# Altium schematic symbol library uln.SchLib: 4 symbols
Pins are listed as number, name and electrical type; pins without a type are passive.

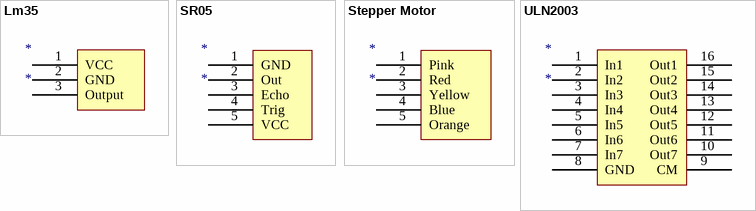
[diagram p0: symbols Lm35 to ULN2003]

## Lm35
designator *
pins: 1 VCC, 2 GND, 3 Output

## SR05
designator *
pins: 1 GND, 2 Out, 3 Echo, 4 Trig, 5 VCC

## Stepper Motor
designator *
pins: 1 Pink, 2 Red, 3 Yellow, 4 Blue, 5 Orange

## ULN2003
designator *
pins: 1 In1, 2 In2, 3 In3, 4 In4, 5 In5, 6 In6, 7 In7, 8 GND, 9 CM, 10 Out7, 11 Out6, 12 Out5, 13 Out4, 14 Out3, 15 Out2, 16 Out1